# Altium schematic symbol library CANwheel.SchLib: 22 symbols
Pins are listed as number, name and electrical type; pins without a type are passive.

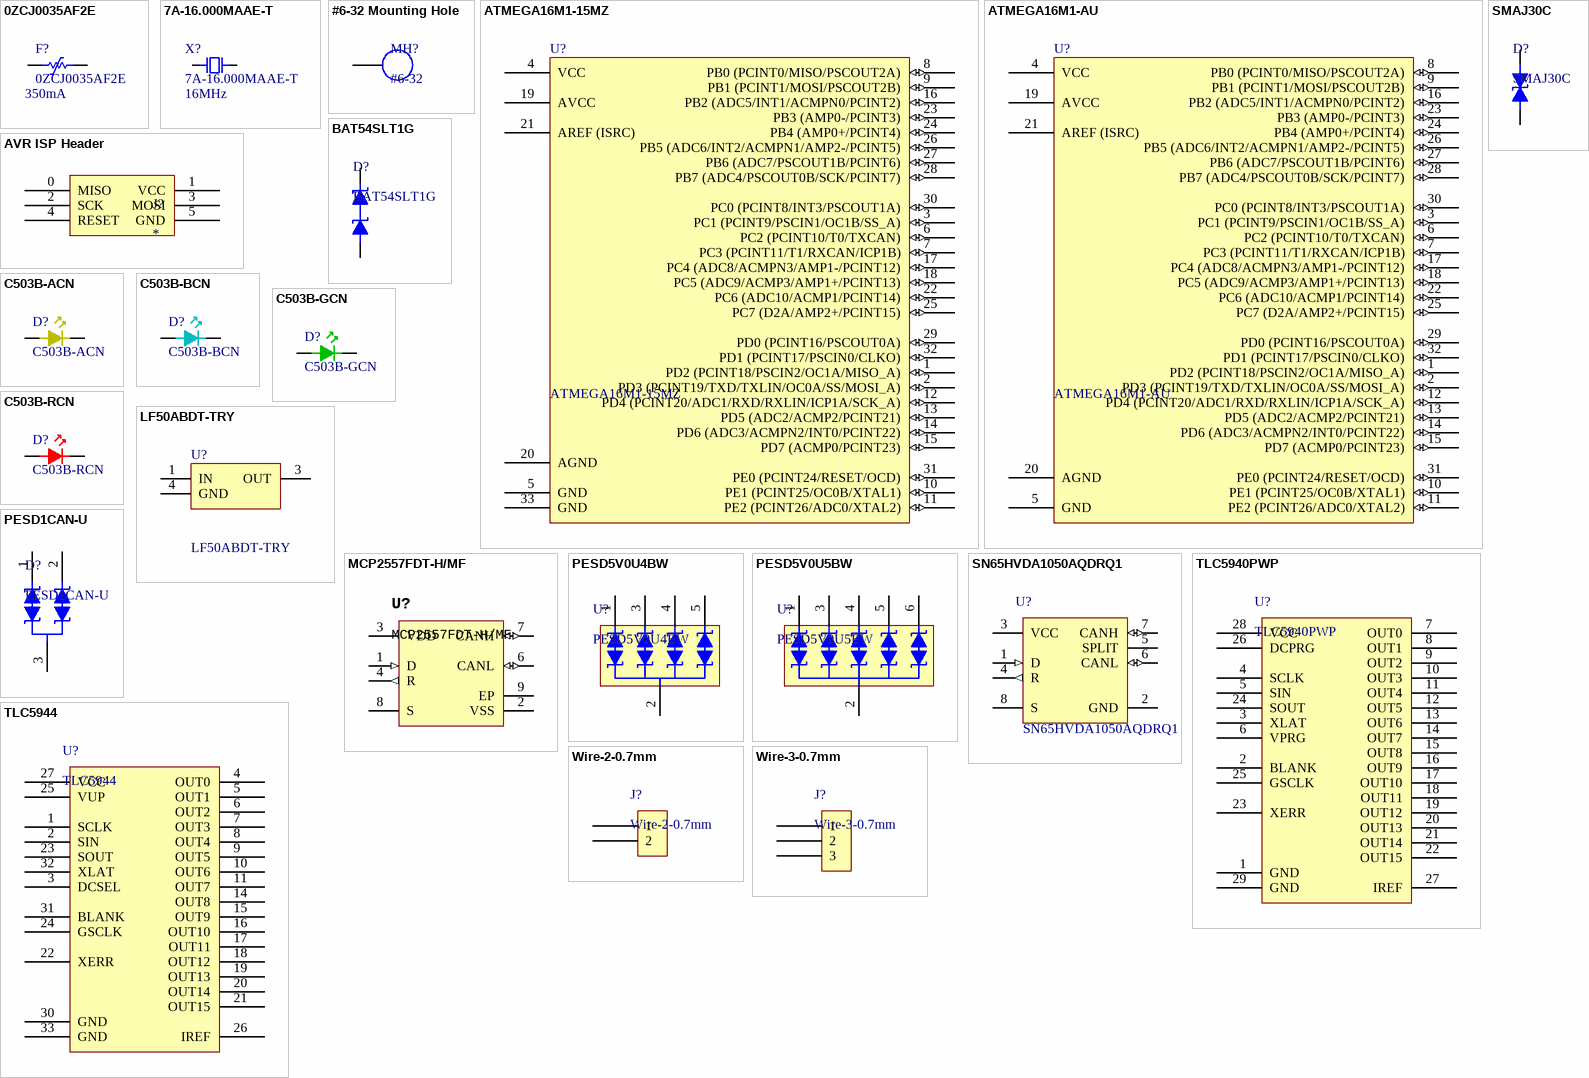
[diagram p0: symbols 0ZCJ0035AF2E to Wire-3-0.7mm]

## 0ZCJ0035AF2E
designator F?  value 350mA
footprint 0ZCJ-1206-0.9
pins: 1, 2

## 7A-16.000MAAE-T
designator X?  value 16MHz
SMD Crystal Oscillator 12 pF; Load Capacitance: 12pF; Supplier 1: Digi-Key; Supplier Part Number 1: 887-1747-1-ND
footprint SON127P500X135-2N (SON, 2-Leads, Body 3.20x5.00mm, Pitch 1.27mm, IPC Medium Density)
pins: 1, 2

## #6-32 Mounting Hole
designator MH?, comment #6-32
#6-32 Mounting hole
footprint MH-6-32
pins: 1

## ATMEGA16M1-15MZ
designator U?
ATmega16M1 32-QFN 7x7 mm; Supplier 1: Digi-Key; Supplier 2: Mouser; Supplier Part Number 1: ATMEGA16M1-15AZCT-ND; Supplier Part Number 2: 556-ATMEGA16M1-15AZ
footprint QFN65P700X700X100_HS-33N (QFN, 32-Leads, Body 7.00x7.00mm, Pitch 0.65mm, Thermal Pad 4.50x4.50mm, IPC Medium Density)
pins: 1 PD2 (PCINT18/PSCIN2/OC1A/MISO_A) (io), 2 PD3 (PCINT19/TXD/TXLIN/OC0A/SS/MOSI_A) (io), 3 PC1 (PCINT9/PSCIN1/OC1B/SS_A) (io), 4 VCC (power), 5 GND (power), 6 PC2 (PCINT10/T0/TXCAN) (io), 7 PC3 (PCINT11/T1/RXCAN/ICP1B) (io), 8 PB0 (PCINT0/MISO/PSCOUT2A) (io), 9 PB1 (PCINT1/MOSI/PSCOUT2B) (io), 10 PE1 (PCINT25/OC0B/XTAL1) (io), 11 PE2 (PCINT26/ADC0/XTAL2) (io), 12 PD4 (PCINT20/ADC1/RXD/RXLIN/ICP1A/SCK_A) (io), 13 PD5 (ADC2/ACMP2/PCINT21) (io), 14 PD6 (ADC3/ACMPN2/INT0/PCINT22) (io), 15 PD7 (ACMP0/PCINT23) (io), 16 PB2 (ADC5/INT1/ACMPN0/PCINT2) (io), 17 PC4 (ADC8/ACMPN3/AMP1-/PCINT12) (io), 18 PC5 (ADC9/ACMP3/AMP1+/PCINT13) (io), 19 AVCC (power), 20 AGND (power), 21 AREF (ISRC) (power), 22 PC6 (ADC10/ACMP1/PCINT14) (io), 23 PB3 (AMP0-/PCINT3) (io), 24 PB4 (AMP0+/PCINT4) (io), 25 PC7 (D2A/AMP2+/PCINT15) (io), 26 PB5 (ADC6/INT2/ACMPN1/AMP2-/PCINT5) (io), 27 PB6 (ADC7/PSCOUT1B/PCINT6) (io), 28 PB7 (ADC4/PSCOUT0B/SCK/PCINT7) (io), 29 PD0 (PCINT16/PSCOUT0A) (io), 30 PC0 (PCINT8/INT3/PSCOUT1A) (io), 31 PE0 (PCINT24/RESET/OCD) (io), 32 PD1 (PCINT17/PSCIN0/CLKO) (io), 33 GND (power)

## ATMEGA16M1-AU
designator U?
ATmega16M1 32-QFP 7x7 mm
footprint TQFP80P900X900X120-32N (TQFP, 32-Leads, Body 7.00x7.00mm, Pitch 0.80mm, IPC Medium Density)
pins: 1 PD2 (PCINT18/PSCIN2/OC1A/MISO_A) (io), 2 PD3 (PCINT19/TXD/TXLIN/OC0A/SS/MOSI_A) (io), 3 PC1 (PCINT9/PSCIN1/OC1B/SS_A) (io), 4 VCC (power), 5 GND (power), 6 PC2 (PCINT10/T0/TXCAN) (io), 7 PC3 (PCINT11/T1/RXCAN/ICP1B) (io), 8 PB0 (PCINT0/MISO/PSCOUT2A) (io), 9 PB1 (PCINT1/MOSI/PSCOUT2B) (io), 10 PE1 (PCINT25/OC0B/XTAL1) (io), 11 PE2 (PCINT26/ADC0/XTAL2) (io), 12 PD4 (PCINT20/ADC1/RXD/RXLIN/ICP1A/SCK_A) (io), 13 PD5 (ADC2/ACMP2/PCINT21) (io), 14 PD6 (ADC3/ACMPN2/INT0/PCINT22) (io), 15 PD7 (ACMP0/PCINT23) (io), 16 PB2 (ADC5/INT1/ACMPN0/PCINT2) (io), 17 PC4 (ADC8/ACMPN3/AMP1-/PCINT12) (io), 18 PC5 (ADC9/ACMP3/AMP1+/PCINT13) (io), 19 AVCC (power), 20 AGND (power), 21 AREF (ISRC) (power), 22 PC6 (ADC10/ACMP1/PCINT14) (io), 23 PB3 (AMP0-/PCINT3) (io), 24 PB4 (AMP0+/PCINT4) (io), 25 PC7 (D2A/AMP2+/PCINT15) (io), 26 PB5 (ADC6/INT2/ACMPN1/AMP2-/PCINT5) (io), 27 PB6 (ADC7/PSCOUT1B/PCINT6) (io), 28 PB7 (ADC4/PSCOUT0B/SCK/PCINT7) (io), 29 PD0 (PCINT16/PSCOUT0A) (io), 30 PC0 (PCINT8/INT3/PSCOUT1A) (io), 31 PE0 (PCINT24/RESET/OCD) (io), 32 PD1 (PCINT17/PSCIN0/CLKO) (io)

## AVR ISP Header
designator J?
footprint ISP-HEADER
pins: 0 MISO, 1 VCC, 2 SCK, 3 MOSI, 4 RESET, 5 GND

## BAT54SLT1G
designator D?
footprint SOT95P235X110-3N (SOT23, 3-Leads, Body 2.90x2.35mm, Pitch 0.95mm, IPC Medium Density)
pins: 1, 2, 3

## C503B-ACN
designator D?
footprint LED-5mm-A
pins: 1, 2

## C503B-BCN
designator D?
footprint LED-5mm-B
pins: 1, 2

## C503B-GCN
designator D?
footprint LED-5mm-G
pins: 1, 2

## C503B-RCN
designator D?
footprint LED-5mm-R
pins: 1, 2

## LF50ABDT-TRY
designator U?
Supplier 1: Digi-Key; Supplier Part Number 1: 497-10199-1-ND
footprint DPAK228P972X240-3N (D-PAK, 3-Pads, Body 6.20x6.66mm (max), IPC Medium Density)
pins: 1 IN (power), 3 OUT (power), 4 GND

## MCP2557FDT-H/MF
designator U?
CAN transceiver; Supplier 1: Digi-Key; Supplier Part Number 1: MCP2557FDT-H/MFCT-ND
footprint QFN65P300X300X90_HS-9N (QFN, 8-Leads, Body 3.00x3.00mm, Pitch 0.65mm, Thermal Pad 1.55x2.40mm, IPC Medium Density)
pins: 1 D (in) "Driver input", 2 VSS (power) "Ground", 3 VDD (power) "Supply voltage", 4 R (out) "Receiver output", 5 NC hidden "No connection", 6 CANL (io) "Low bus output", 7 CANH (io) "High bus outpu", 8 S "No connection", 9 EP (power) "Ground"

## PESD1CAN-U
designator D?
footprint SOT65P210X110-3N (SOT23, 3-Leads, Body 2.00x2.10mm, Pitch 0.65mm, IPC Medium Density)
pins: 1, 2, 3

## PESD5V0U4BW
designator U?
footprint SOTFL50P160X60-5N (SOTFL, 5-Leads, Body 1.60x1.60mm, Pitch 0.50mm, IPC Medium Density)
pins: 1, 2, 3, 4, 5

## PESD5V0U5BW
designator U?
footprint SOTFL50P160X60-6N (SOTFL, 6-Leads, Body 1.60x1.60mm, Pitch 0.50mm, IPC Medium Density)
pins: 1, 2, 3, 4, 5, 6

## SMAJ30C
designator D?
footprint SON127P500X135-2N (SON, 2-Leads, Body 3.20x5.00mm, Pitch 1.27mm, IPC Medium Density)
pins: 1, 2

## SN65HVDA1050AQDRQ1
designator U?
CAN transceiver; Supplier 1: Digi-Key; Supplier Part Number 1: 296-25836-1-ND
footprint SOIC127P600X175-8M (SOIC, 8-Leads, Body 4.90x3.90mm, Pitch 1.27mm, IPC Low Density)
pins: 1 D (in) "Driver input", 2 GND (power) "Ground", 3 VCC (power) "Supply voltage", 4 R (out) "Receiver output", 5 SPLIT "No connection", 6 CANL (io) "Low bus output", 7 CANH (io) "High bus outpu", 8 S "No connection"

## TLC5940PWP
designator U?
footprint TSOP65P640X120_HS-29N (TSOP, 28-Leads, Body 9.70x4.40mm, Pitch 0.65mm, Thermal Pad 6.17x2.40mm, IPC Medium Density)
pins: 1 GND, 2 BLANK, 3 XLAT, 4 SCLK, 5 SIN, 6 VPRG, 7 OUT0, 8 OUT1, 9 OUT2, 10 OUT3, 11 OUT4, 12 OUT5, 13 OUT6, 14 OUT7, 15 OUT8, 16 OUT9, 17 OUT10, 18 OUT11, 19 OUT12, 20 OUT13, 21 OUT14, 22 OUT15, 23 XERR, 24 SOUT, 25 GSCLK, 26 DCPRG, 27 IREF, 28 VCC, 29 GND

## TLC5944
designator U?
footprint QFN50P500X500X100_HS-33N (QFN, 32-Leads, Body 5.00x5.00mm, Pitch 0.50mm, Thermal Pad 3.45x3.45mm, IPC Medium Density)
pins: 1 SCLK, 2 SIN, 3 DCSEL, 4 OUT0, 5 OUT1, 6 OUT2, 7 OUT3, 8 OUT4, 9 OUT5, 10 OUT6, 11 OUT7, 14 OUT8, 15 OUT9, 16 OUT10, 17 OUT11, 18 OUT12, 19 OUT13, 20 OUT14, 21 OUT15, 22 XERR, 23 SOUT, 24 GSCLK, 25 VUP, 26 IREF, 27 VCC, 30 GND, 31 BLANK, 32 XLAT, 33 GND

## Wire-2-0.7mm
designator J?
footprint WIRE-2-0.7mm
pins: 1, 2

## Wire-3-0.7mm
designator J?
footprint WIRE-3-0.7mm
pins: 1, 2, 3